# Altium schematic symbol library 1E.SchLib: 1 symbol
Pins are listed as number, name and electrical type; pins without a type are passive.

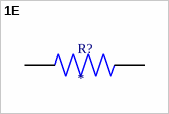
[diagram p0: symbol 1E]

## 1E
designator R?
MP: ERJ3RQF1R0V; Price: None; Availability: Unavailable; Value: *; Package: None
footprint 1E
pins: 1, 2